# Altium schematic symbol library SW_DPDT.Schlib: 1 symbol
Pins are listed as number, name and electrical type; pins without a type are passive.

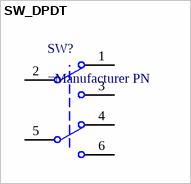
[diagram p0: symbol SW_DPDT]

## SW_DPDT
designator SW?
DPDT Switch (COM: 2,5)
pins: 1, 2, 3, 4, 5, 6